# Altium schematic symbol library con-phoenix-3.SCHLIB: 8 symbols
Pins are listed as number, name and electrical type; pins without a type are passive.

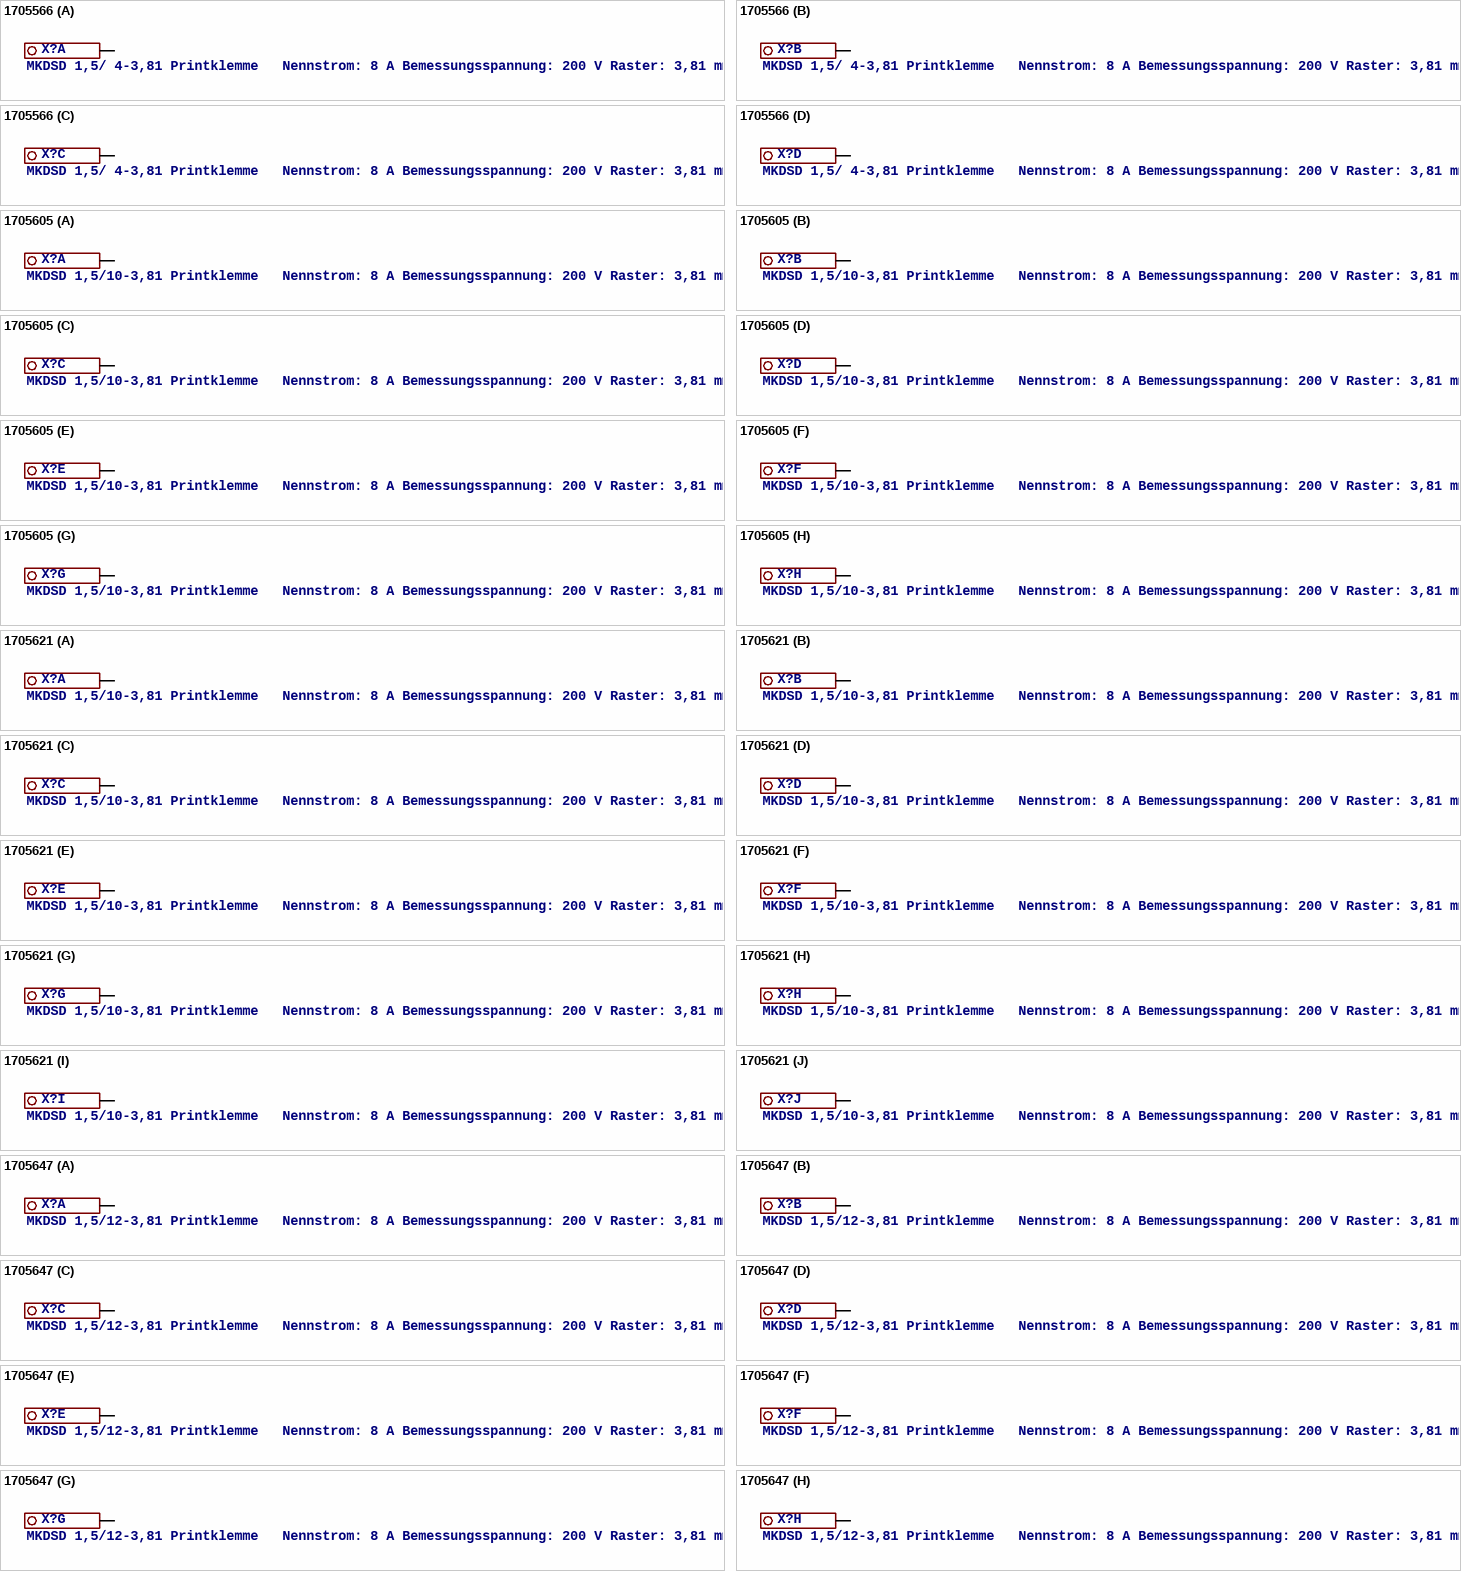
[diagram p0: symbols 1705566 to 1705647]

## 1705566
designator X?, comment MKDSD 1,5/ 4-3,81 Printklemme   Nennstrom: 8 A Bemessungsspannung: 200 V Raster: 3,81 mm Polzahl: 4 Montageart: Löten Anschlussart: Schraubanschluss Anschlussrichtung vom Leiter zur Platine: 0° Source: http://eshop.phoenixcontact.com .. 1705566.pdf
OC_FARNELL: unknown; OC_NEWARK: unknown
footprint 1705566
part A pins: 1.1 1.2 1A
part B pins: 2.1 2.2 1A
part C pins: 3.1 3.2 1A
part D pins: 4.1 4.2 1A

## 1705605
designator X?, comment MKDSD 1,5/10-3,81 Printklemme   Nennstrom: 8 A Bemessungsspannung: 200 V Raster: 3,81 mm Polzahl: 12 Montageart: Löten Anschlussart: Schraubanschluss Anschlussrichtung vom Leiter zur Platine: 0° Source: http://eshop.phoenixcontact.com .. 1705605.pdf
OC_FARNELL: unknown; OC_NEWARK: unknown
footprint 1705605
part A pins: 1.1 1.2 1A
part B pins: 2.1 2.2 1A
part C pins: 3.1 3.2 1A
part D pins: 4.1 4.2 1A
part E pins: 5.1 5.2 1A
part F pins: 6.1 6.2 1A
part G pins: 7.1 7.2 1A
part H pins: 8.1 8.2 1A

## 1705621
designator X?, comment MKDSD 1,5/10-3,81 Printklemme   Nennstrom: 8 A Bemessungsspannung: 200 V Raster: 3,81 mm Polzahl: 12 Montageart: Löten Anschlussart: Schraubanschluss Anschlussrichtung vom Leiter zur Platine: 0° Source: http://eshop.phoenixcontact.com .. 1705621.pdf
OC_FARNELL: unknown; OC_NEWARK: unknown
footprint 1705621
part A pins: 1.1 1.2 1A
part B pins: 2.1 2.2 1A
part C pins: 3.1 3.2 1A
part D pins: 4.1 4.2 1A
part E pins: 5.1 5.2 1A
part F pins: 6.1 6.2 1A
part G pins: 7.1 7.2 1A
part H pins: 8.1 8.2 1A
part I pins: 9.1 9.2 1A
part J pins: 10.1 10.2 1A

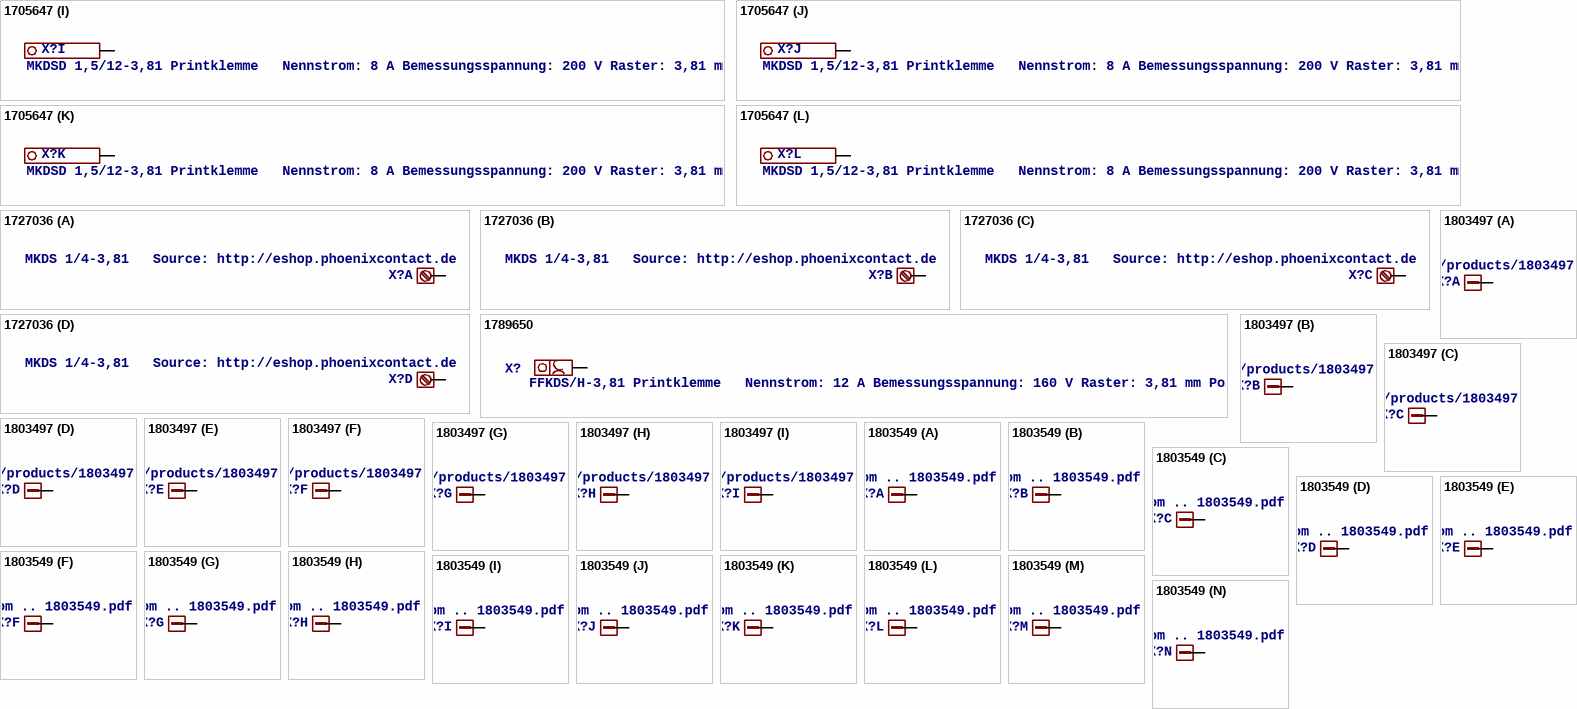
[diagram p1: symbols 1705647 to 1803549]

## 1705647
designator X?, comment MKDSD 1,5/12-3,81 Printklemme   Nennstrom: 8 A Bemessungsspannung: 200 V Raster: 3,81 mm Polzahl: 12 Montageart: Löten Anschlussart: Schraubanschluss Anschlussrichtung vom Leiter zur Platine: 0° Source: http://eshop.phoenixcontact.com .. 1705647.pdf
OC_FARNELL: unknown; OC_NEWARK: unknown
footprint 1705647
part A pins: 1.1 1.2 1A
part B pins: 2.1 2.2 1A
part C pins: 3.1 3.2 1A
part D pins: 4.1 4.2 1A
part E pins: 5.1 5.2 1A
part F pins: 6.1 6.2 1A
part G pins: 7.1 7.2 1A
part H pins: 8.1 8.2 1A
part I pins: 9.1 9.2 1A
part J pins: 10.1 10.2 1A
part K pins: 11.1 11.2 1A
part L pins: 12.1 12.2 1A

## 1727036
designator X?, comment MKDS 1/4-3,81   Source: http://eshop.phoenixcontact.de
MPN: 1727036; MF: FARNELL; OC_FARNELL: 3704592; OC_NEWARK: 71C4114
footprint 1727036
part A pins: 1
part B pins: 2 1
part C pins: 3 1
part D pins: 4 1

## 1789650
designator X?, comment FFKDS/H-3,81 Printklemme   Nennstrom: 12 A Bemessungsspannung: 160 V Raster: 3,81 mm Polzahl: 1 Montageart: Löten Anschlussart:Federkraftanschluss Anschlussrichtung vom Leiter zur Platine: 0° Source: 1789650.pdf
OC_FARNELL: unknown; OC_NEWARK: unknown
footprint 1789650
pins: A B 1A

## 1803497
designator X?, comment MCV 1,5/14-G-3,81 Grundgehäuse   Nennstrom: 8 A Bemessungsspannung: 160 V Raster: 3,81 mm Polzahl: 9 Montageart: Löten Source: https://www.phoenixcontact.com/us/products/1803497
footprint 1803497
part A pins: 1
part B pins: 2 1
part C pins: 3 1
part D pins: 4 1
part E pins: 5 1
part F pins: 6 1
part G pins: 7 1
part H pins: 8 1
part I pins: 9 1

## 1803549
designator X?, comment MCV 1,5/14-G-3,81 Grundgehäuse   Nennstrom: 8 A Bemessungsspannung: 160 V Raster: 3,81 mm Polzahl: 14 Montageart: Löten Source: http://eshop.phoenixcontact.com .. 1803549.pdf
footprint 1803549
part A pins: 1
part B pins: 2 1
part C pins: 3 1
part D pins: 4 1
part E pins: 5 1
part F pins: 6 1
part G pins: 7 1
part H pins: 8 1
part I pins: 9 1
part J pins: 10 1
part K pins: 11 1
part L pins: 12 1
part M pins: 13 1
part N pins: 14 1